# Altium integrated library 1N5408.IntLib: 1 symbol
Pins are listed as number, name and electrical type; pins without a type are passive.

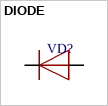
[diagram p0: symbol DIODE]

## DIODE
designator VD?
footprint 1N5408
pins: 1 C, 2 A